# Altium footprint library Task_footprint.PcbLib: 3 footprints
Each footprint in its own frame and in the unit in brackets; x right, y up, seen from the top. Pads: shape width x height; smd on the part's side, far side on the other; paste and mask are expansions set on the pad; w line width, h text height; cw(c..) or ccw(c..) is an arc to the next point about the centre after c.
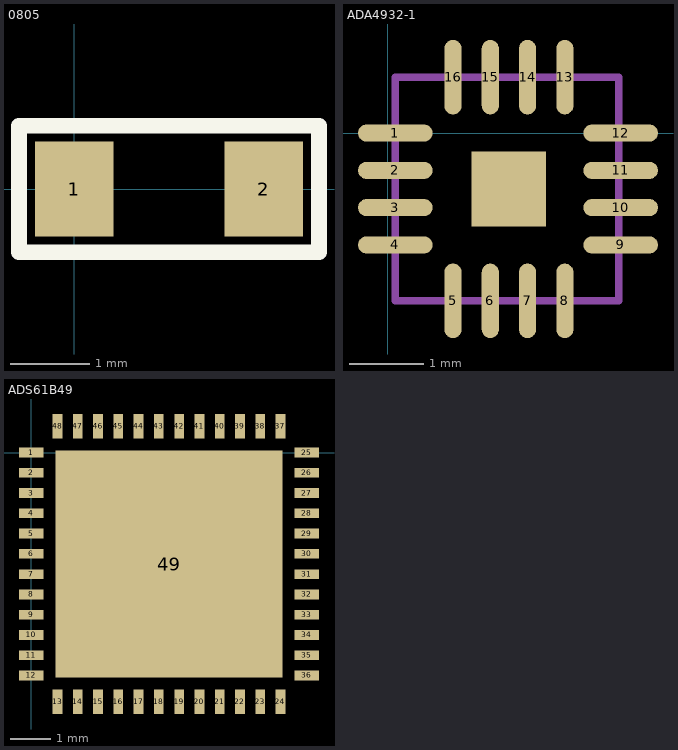
[diagram p0: the footprints below, top view; thin cyan lines are the x and y axes]

## 0805 [mm]
pads (2):
  rect 1x1.2 smd: 1(0,0) 2(2.4,0)
Top Overlay:
  lines w0.2: -0.7,-0.8 -0.7,0.8 3.1,0.8 3.1,-0.8 -0.7,-0.8

## ADA4932-1 [mm]
pads (17):
  oval 1x0.23 smd: 1(0.1,0) 2(0.1,-0.5) 3(0.1,-1) 4(0.1,-1.5) 9(3.125,-1.5) 10(3.125,-1) 11(3.125,-0.5) 12(3.125,0)
  oval 0.23x1 smd: 5(0.875,-2.25) 6(1.375,-2.25) 7(1.875,-2.25) 8(2.375,-2.25) 13(2.375,0.75) 14(1.875,0.75) 15(1.375,0.75) 16(0.875,0.75)
  rect 1x1 smd: ""(1.625,-0.75)
Mechanical 1:
  lines w0.1: 0.1,-2.25 0.1,0.75 3.1,0.75 3.1,-2.25 0.1,-2.25

## ADS61B49 [mm]
pads (49):
  rect 0.6x0.24 smd: 1(0,0) 2(0,-0.5) 3(0,-1) 4(0,-1.5) 5(0,-2) 6(0,-2.5) 7(0,-3) 8(0,-3.5) 9(0,-4) 10(0,-4.5) 11(0,-5) 12(0,-5.5) 25(6.8,0) 26(6.8,-0.5) 27(6.8,-1) 28(6.8,-1.5) 29(6.8,-2) 30(6.8,-2.5) 31(6.8,-3) 32(6.8,-3.5) 33(6.8,-4) 34(6.8,-4.5) 35(6.8,-5) 36(6.8,-5.5)
  rect 0.24x0.6 smd: 13(0.65,-6.15) 14(1.15,-6.15) 15(1.65,-6.15) 16(2.15,-6.15) 17(2.65,-6.15) 18(3.15,-6.15) 19(3.65,-6.15) 20(4.15,-6.15) 21(4.65,-6.15) 22(5.15,-6.15) 23(5.65,-6.15) 24(6.15,-6.15) 37(6.15,0.65) 38(5.65,0.65) 39(5.15,0.65) 40(4.65,0.65) 41(4.15,0.65) 42(3.65,0.65) 43(3.15,0.65) 44(2.65,0.65) 45(2.15,0.65) 46(1.65,0.65) 47(1.15,0.65) 48(0.65,0.65)
  rect 5.6x5.6 smd: 49(3.4,-2.75)